# Altium schematic symbol library PLCC-RP2350B.SCHLIB: 3 symbols
Pins are listed as number, name and electrical type; pins without a type are passive.

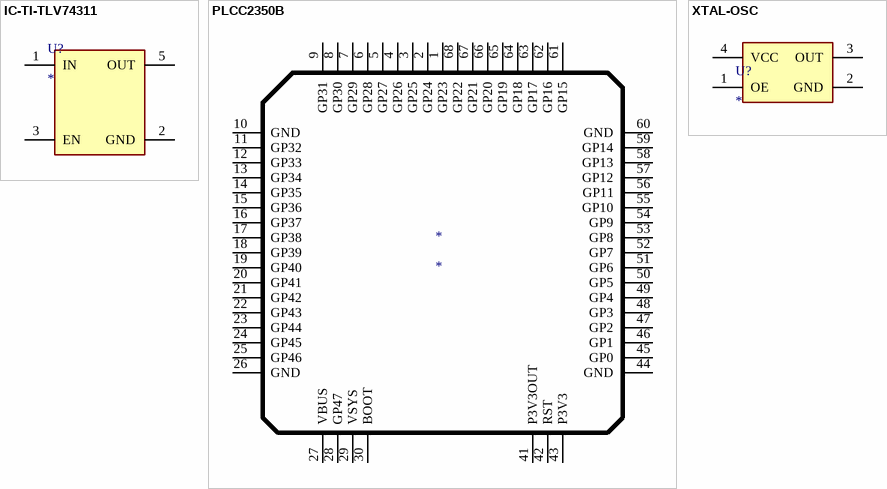
[diagram p0: symbols IC-TI-TLV74311 to XTAL-OSC]

## IC-TI-TLV74311
designator U?
footprint SOT23-5 (SOT23 PACKAGE, 5 PIN (SOT25))
pins: 1 IN, 2 GND, 3 EN, 5 OUT

## PLCC2350B
designator *
footprint PLCC2350B
pins: 1 GP23, 2 GP24, 3 GP25, 4 GP26, 5 GP27, 6 GP28, 7 GP29, 8 GP30, 9 GP31, 10 GND, 11 GP32, 12 GP33, 13 GP34, 14 GP35, 15 GP36, 16 GP37, 17 GP38, 18 GP39, 19 GP40, 20 GP41, 21 GP42, 22 GP43, 23 GP44, 24 GP45, 25 GP46, 26 GND, 27 VBUS, 28 GP47, 29 VSYS, 30 BOOT, 41 P3V3OUT, 42 RST, 43 P3V3, 44 GND, 45 GP0, 46 GP1, 47 GP2, 48 GP3, 49 GP4, 50 GP5, 51 GP6, 52 GP7, 53 GP8, 54 GP9, 55 GP10, 56 GP11, 57 GP12, 58 GP13, 59 GP14, 60 GND, 61 GP15, 62 GP16, 63 GP17, 64 GP18, 65 GP19, 66 GP20, 67 GP21, 68 GP22

## XTAL-OSC
designator U?
footprint XOSC-SCTF-SX1M12.000M10F30TNN
pins: 1 OE, 2 GND, 3 OUT, 4 VCC